# Altium integrated library Interface ICs.IntLib: 53 symbols
Pins are listed as number, name and electrical type; pins without a type are passive.

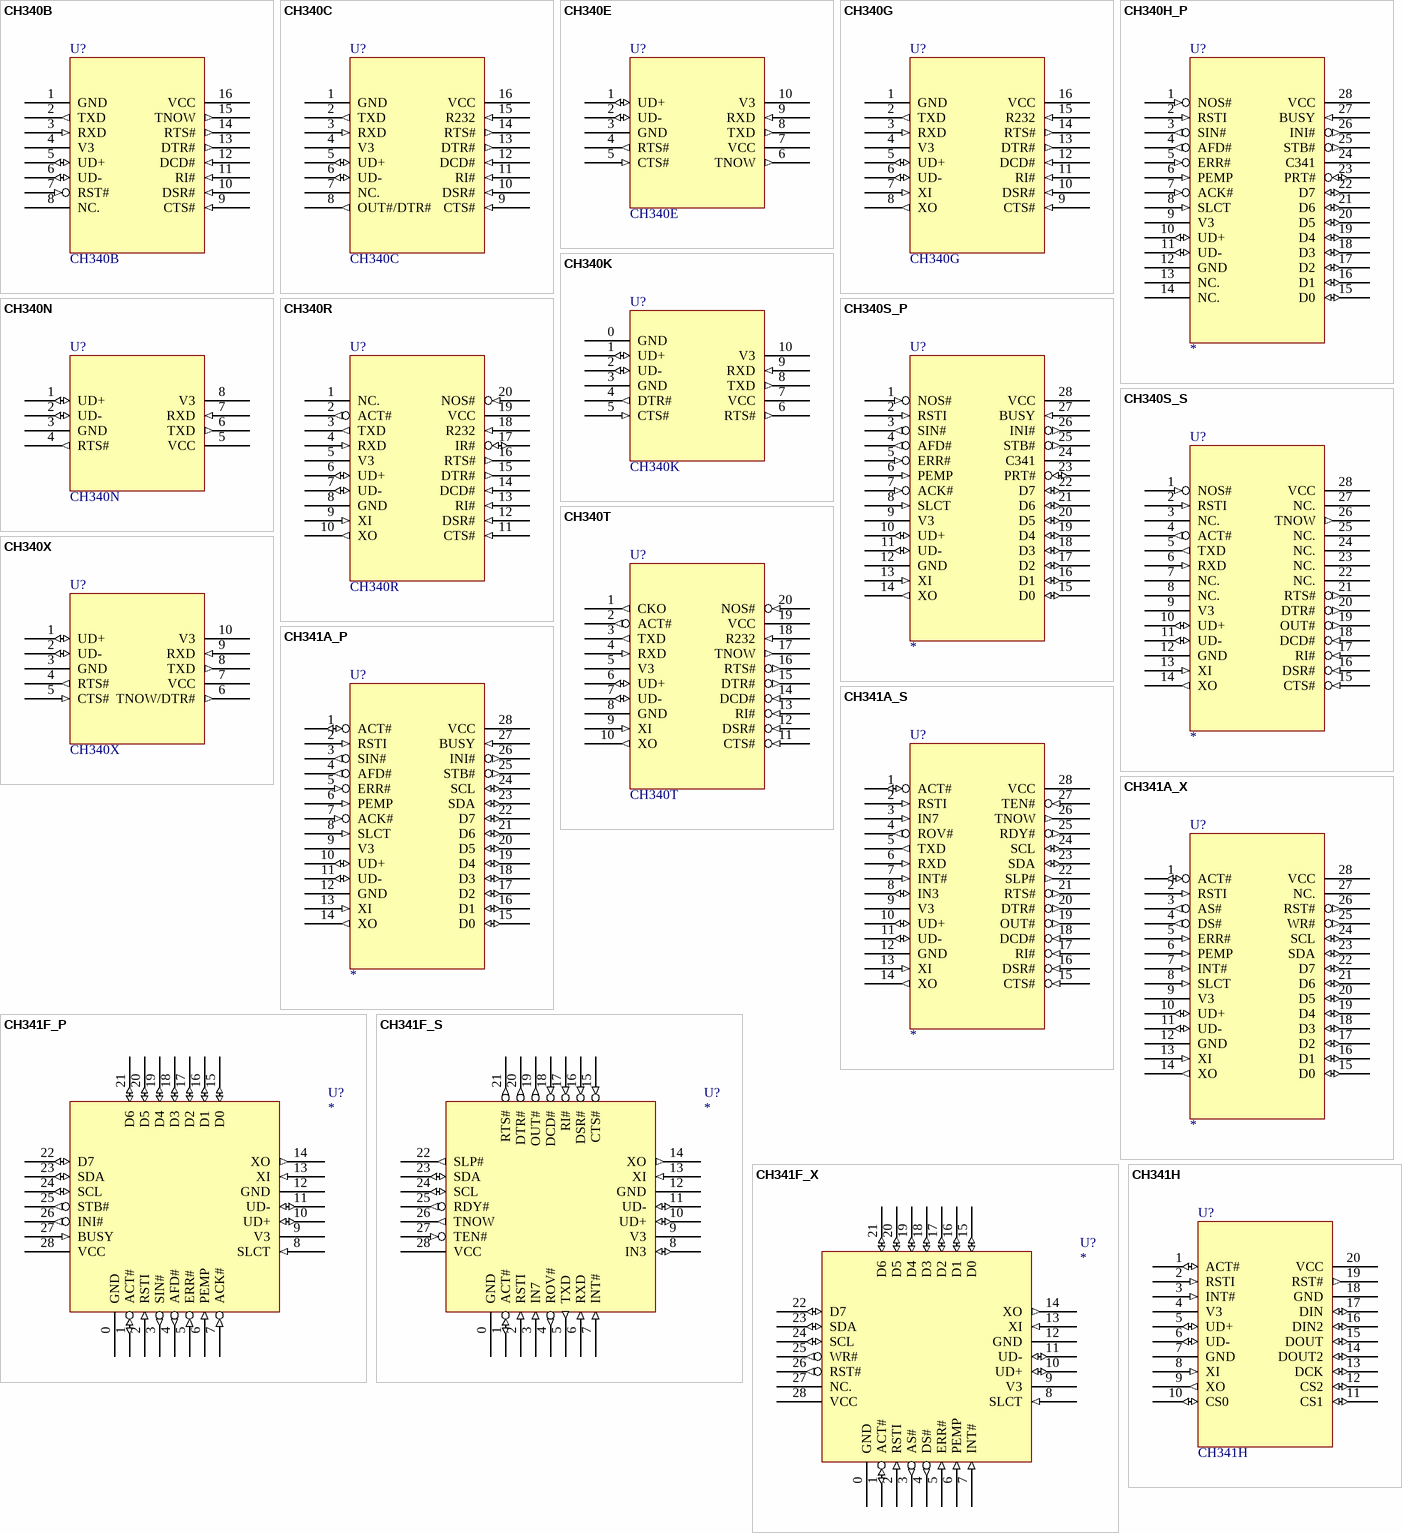
[diagram p0: symbols CH340B to CH341H]

## CH340B
designator U?
USB to TTL Serial / UART, Integrated clock; 制造商: WCH(南京沁恒); 子类别: USB转串口; 封装: SOP-16; 类别: USB转换芯片; USB协议版本: USB 2.0 全速; 工作电压: 3.3V/5V; 最高速率: 2Mbps; 通道数: 1
footprint SOP16
pins: 1 GND (power), 2 TXD (out), 3 RXD (in), 4 V3 (power), 5 UD+ (io), 6 UD- (io), 7 RST# (in), 8 NC., 9 CTS# (in), 10 DSR# (in), 11 RI# (in), 12 DCD# (in), 13 DTR# (out), 14 RTS# (out), 15 TNOW (out), 16 VCC (power)

## CH340C
designator U?
USB to TTL Serial / UART; 制造商: WCH(南京沁恒); 子类别: USB转串口; 封装: SOP-16; 类别: USB转换芯片; USB协议版本: USB 2.0 全速; 工作电压: 3.3V/5V; 最高速率: 2Mbps; 通道数: 1
footprint SOP16
pins: 1 GND (power), 2 TXD (out), 3 RXD (in), 4 V3 (power), 5 UD+ (io), 6 UD- (io), 7 NC., 8 OUT#/DTR# (out), 9 CTS# (in), 10 DSR# (in), 11 RI# (in), 12 DCD# (in), 13 DTR# (out), 14 RTS# (out), 15 R232 (in), 16 VCC (power)

## CH340E
designator U?
USB to TTL Serial / UART; 制造商: WCH(南京沁恒); 子类别: USB转串口; 封装: MSOP-10; 类别: USB转换芯片; USB协议版本: USB 2.0 全速; 工作电压: 3.3V/5V; 最高速率: 2Mbps; 通道数: 1
footprint MSOP10
pins: 1 UD+ (io), 2 UD- (io), 3 GND (power), 4 RTS# (out), 5 CTS# (in), 6 TNOW (out), 7 VCC (power), 8 TXD (out), 9 RXD (in), 10 V3 (power)

## CH340G
designator U?
USB to TTL Serial / UART; 制造商: WCH(南京沁恒); 子类别: USB转串口; 封装: SOP-16; 类别: USB转换芯片; USB协议版本: USB 2.0 全速; 工作电压: 3.3V/5V; 最高速率: 2Mbps; 通道数: 1
footprint SOP16
pins: 1 GND (power), 2 TXD (out), 3 RXD (in), 4 V3 (power), 5 UD+ (io), 6 UD- (io), 7 XI (in), 8 XO (out), 9 CTS# (in), 10 DSR# (in), 11 RI# (in), 12 DCD# (in), 13 DTR# (out), 14 RTS# (out), 15 R232 (in), 16 VCC (power)

## CH340H_P
designator U?
USB to Print Port / Parallel; 制造商: WCH(南京沁恒); 子类别: USB转打印口; 封装: DIP28/SOP28; 类别: USB转换芯片; USB协议版本: USB 2.0 全速; 工作电压: 3.3V/5V; 通道数: 1; 最高速率: -
footprint SOP28
footprint DIP28
pins: 1 NOS# (in), 2 RSTI (in), 3 SIN# (out), 4 AFD# (out), 5 ERR# (in), 6 PEMP (in), 7 ACK# (in), 8 SLCT (in), 9 V3 (power), 10 UD+ (io), 11 UD- (io), 12 GND (power), 13 NC., 14 NC., 15 D0 (io), 16 D1 (io), 17 D2 (io), 18 D3 (io), 19 D4 (io), 20 D5 (io), 21 D6 (io), 22 D7 (io), 23 PRT# (io), 24 C341, 25 STB# (out), 26 INI# (out), 27 BUSY (in), 28 VCC (power)

## CH340K
designator U?
USB to TTL Serial / UART for dual power; 制造商: WCH(南京沁恒); 子类别: USB转串口; 封装: ESSOP-10; 类别: USB转换芯片; USB协议版本: USB 2.0 全速; 工作电压: 5V/3.3V/2.5V/1.8V; 最高速率: 230400bps; 通道数: 1
footprint ESSOP10
pins: 0 GND (power), 1 UD+ (io), 2 UD- (io), 3 GND (power), 4 DTR# (out), 5 CTS# (in), 6 RTS# (out), 7 VCC (power), 8 TXD (out), 9 RXD (in), 10 V3 (power)

## CH340N
designator U?
USB to TTL Serial / UART; 制造商: WCH(南京沁恒); 子类别: USB转串口; 封装: SOP-8; 类别: USB转换芯片; USB协议版本: USB 2.0 全速; 工作电压: 3.3V/5V; 最高速率: 2Mbps; 通道数: 1
footprint SOP8
pins: 1 UD+ (io), 2 UD- (io), 3 GND (power), 4 RTS# (out), 5 VCC (power), 6 TXD (out), 7 RXD (in), 8 V3 (power)

## CH340R
designator U?
USB to IrDA, USB to RS232 Serial; 制造商: WCH(南京沁恒); 子类别: USB转串口; 封装: SSOP-20; 类别: USB转换芯片; USB协议版本: USB 2.0 全速; 工作电压: 3.3V/5V; 最高速率: 2Mbps; 通道数: 1
footprint SSOP20
pins: 1 NC., 2 ACT# (out), 3 TXD (out), 4 RXD (in), 5 V3 (power), 6 UD+ (io), 7 UD- (io), 8 GND (power), 9 XI (in), 10 XO (out), 11 CTS# (in), 12 DSR# (in), 13 RI# (in), 14 DCD# (in), 15 DTR# (out), 16 RTS# (out), 17 IR# (io), 18 R232 (in), 19 VCC (power), 20 NOS# (in)

## CH340S_P
designator U?
USB to Print Port / Parallel; 制造商: WCH(南京沁恒); 子类别: USB转打印口; 封装: DIP28/SOP28; 类别: USB转换芯片; USB协议版本: USB 2.0 全速; 工作电压: 3.3V/5V; 通道数: 1; 最高速率: -
footprint SOP28
footprint DIP28
pins: 1 NOS# (in), 2 RSTI (in), 3 SIN# (out), 4 AFD# (out), 5 ERR# (in), 6 PEMP (in), 7 ACK# (in), 8 SLCT (in), 9 V3 (power), 10 UD+ (io), 11 UD- (io), 12 GND (power), 13 XI (in), 14 XO (out), 15 D0 (io), 16 D1 (io), 17 D2 (io), 18 D3 (io), 19 D4 (io), 20 D5 (io), 21 D6 (io), 22 D7 (io), 23 PRT# (io), 24 C341, 25 STB# (out), 26 INI# (out), 27 BUSY (in), 28 VCC (power)

## CH340S_S
designator U?
USB to TTL Serial / UART, pin compatible with CH341; 制造商: WCH(南京沁恒); 子类别: USB转串口; 封装: DIP28/SOP28; 类别: USB转换芯片; USB协议版本: USB 2.0 全速; 工作电压: 3.3V/5V; 最高速率: 2Mbps; 通道数: 1
footprint SOP28
footprint DIP28
pins: 1 NOS# (in), 2 RSTI (in), 3 NC., 4 ACT# (out), 5 TXD (out), 6 RXD (in), 7 NC., 8 NC., 9 V3 (power), 10 UD+ (io), 11 UD- (io), 12 GND (power), 13 XI (in), 14 XO (out), 15 CTS# (in), 16 DSR# (in), 17 RI# (in), 18 DCD# (in), 19 OUT# (out), 20 DTR# (out), 21 RTS# (out), 22 NC., 23 NC., 24 NC., 25 NC., 26 TNOW (out), 27 NC., 28 VCC (power)

## CH340T
designator U?
USB to TTL Serial / UART,  USB to IrDA; 制造商: WCH(南京沁恒); 子类别: USB转串口; 封装: SSOP-20; 类别: USB转换芯片; USB协议版本: USB 2.0 全速; 工作电压: 3.3V/5V; 最高速率: 2Mbps; 通道数: 1
footprint SSOP20
pins: 1 CKO (out), 2 ACT# (out), 3 TXD (out), 4 RXD (in), 5 V3 (power), 6 UD+ (io), 7 UD- (io), 8 GND (power), 9 XI (in), 10 XO (out), 11 CTS# (in), 12 DSR# (in), 13 RI# (in), 14 DCD# (in), 15 DTR# (out), 16 RTS# (out), 17 TNOW (out), 18 R232 (in), 19 VCC (power), 20 NOS# (in)

## CH340X
designator U?
USB to TTL Serial / UART; 制造商: WCH(南京沁恒); 子类别: USB转串口; 封装: MSOP-10; 类别: USB转换芯片; USB协议版本: USB 2.0 全速; 工作电压: 3.3V/5V; 最高速率: 2Mbps; 通道数: 1
footprint MSOP10
pins: 1 UD+ (io), 2 UD- (io), 3 GND (power), 4 RTS# (out), 5 CTS# (in), 6 TNOW/DTR# (out), 7 VCC (power), 8 TXD (out), 9 RXD (in), 10 V3 (power)

## CH341A_P
designator U?
USB to Print Port / Parallel; 制造商: WCH(南京沁恒); 子类别: USB转打印口; 封装: SOP-28; 类别: USB转换芯片; USB协议版本: USB 2.0 全速; 工作电压: 3.3V/5V; 通道数: 1; 最高速率: -
footprint SOP28
footprint TSSOP28
footprint DIP28
pins: 1 ACT# (io), 2 RSTI (in), 3 SIN# (out), 4 AFD# (out), 5 ERR# (in), 6 PEMP (in), 7 ACK# (in), 8 SLCT (in), 9 V3 (power), 10 UD+ (io), 11 UD- (io), 12 GND (power), 13 XI (in), 14 XO (out), 15 D0 (io), 16 D1 (io), 17 D2 (io), 18 D3 (io), 19 D4 (io), 20 D5 (io), 21 D6 (io), 22 D7 (io), 23 SDA (io), 24 SCL (io), 25 STB# (out), 26 INI# (out), 27 BUSY (in), 28 VCC (power)

## CH341A_S
designator U?
USB to TTL Serial / UART / I2C/IIC; 制造商: WCH(南京沁恒); 子类别: USB转串口; 封装: SOP-28; 类别: USB转换芯片; USB协议版本: USB 2.0 全速; 工作电压: 3.3V/5V; 最高速率: 2Mbps; 通道数: 1
footprint SOP28
footprint TSSOP28
footprint DIP28
pins: 1 ACT# (io), 2 RSTI (in), 3 IN7 (in), 4 ROV# (out), 5 TXD (out), 6 RXD (in), 7 INT# (in), 8 IN3 (io), 9 V3 (power), 10 UD+ (io), 11 UD- (io), 12 GND (power), 13 XI (in), 14 XO (out), 15 CTS# (in), 16 DSR# (in), 17 RI# (in), 18 DCD# (in), 19 OUT# (out), 20 DTR# (out), 21 RTS# (out), 22 SLP# (out), 23 SDA (io), 24 SCL (io), 25 RDY# (out), 26 TNOW (out), 27 TEN# (in), 28 VCC (power)

## CH341A_X
designator U?
USB to EPP Parallel / SPI / I2C/IIC; 制造商: WCH(南京沁恒); 子类别: USB转并口; 封装: SOP-28; 类别: USB转换芯片; USB协议版本: USB 2.0 全速; 工作电压: 3.3V/5V; 通道数: 1; 最高速率: -
footprint SOP28
footprint TSSOP28
footprint DIP28
pins: 1 ACT# (io), 2 RSTI (in), 3 AS# (out), 4 DS# (out), 5 ERR# (in), 6 PEMP (in), 7 INT# (in), 8 SLCT (in), 9 V3 (power), 10 UD+ (io), 11 UD- (io), 12 GND (power), 13 XI (in), 14 XO (out), 15 D0 (io), 16 D1 (io), 17 D2 (io), 18 D3 (io), 19 D4 (io), 20 D5 (io), 21 D6 (io), 22 D7 (io), 23 SDA (io), 24 SCL (io), 25 WR# (out), 26 RST# (out), 27 NC., 28 VCC (power)

## CH341F_P
designator U?
USB to Print Port / Parallel; 制造商: WCH(南京沁恒); 子类别: USB转打印口; 封装: QFN28_4X4; 类别: USB转换芯片; USB协议版本: USB 2.0 全速; 工作电压: 3.3V/5V; 通道数: 1; 最高速率: -
footprint QFN28_4X4
footprint DIP28
pins: 0 GND (power), 1 ACT# (io), 2 RSTI (in), 3 SIN# (out), 4 AFD# (out), 5 ERR# (in), 6 PEMP (in), 7 ACK# (in), 8 SLCT (in), 9 V3 (power), 10 UD+ (io), 11 UD- (io), 12 GND (power), 13 XI (in), 14 XO (out), 15 D0 (io), 16 D1 (io), 17 D2 (io), 18 D3 (io), 19 D4 (io), 20 D5 (io), 21 D6 (io), 22 D7 (io), 23 SDA (io), 24 SCL (io), 25 STB# (out), 26 INI# (out), 27 BUSY (in), 28 VCC (power)

## CH341F_S
designator U?
USB to TTL Serial / UART / I2C/IIC; 制造商: WCH(南京沁恒); 子类别: USB转串口; 封装: QFN28_4X4; 类别: USB转换芯片; USB协议版本: USB 2.0 全速; 工作电压: 3.3V/5V; 最高速率: 2Mbps; 通道数: 1
footprint QFN28_4X4
footprint DIP28
pins: 0 GND (power), 1 ACT# (io), 2 RSTI (in), 3 IN7 (in), 4 ROV# (out), 5 TXD (out), 6 RXD (in), 7 INT# (in), 8 IN3 (io), 9 V3 (power), 10 UD+ (io), 11 UD- (io), 12 GND (power), 13 XI (in), 14 XO (out), 15 CTS# (in), 16 DSR# (in), 17 RI# (in), 18 DCD# (in), 19 OUT# (out), 20 DTR# (out), 21 RTS# (out), 22 SLP# (out), 23 SDA (io), 24 SCL (io), 25 RDY# (out), 26 TNOW (out), 27 TEN# (in), 28 VCC (power)

## CH341F_X
designator U?
USB to EPP Parallel / SPI / I2C/IIC; 制造商: WCH(南京沁恒); 子类别: USB转并口; 封装: QFN28_4X4; 类别: USB转换芯片; USB协议版本: USB 2.0 全速; 工作电压: 3.3V/5V; 通道数: 1; 最高速率: -
footprint QFN28_4X4
footprint DIP28
pins: 0 GND (power), 1 ACT# (io), 2 RSTI (in), 3 AS# (out), 4 DS# (out), 5 ERR# (in), 6 PEMP (in), 7 INT# (in), 8 SLCT (in), 9 V3 (power), 10 UD+ (io), 11 UD- (io), 12 GND (power), 13 XI (in), 14 XO (out), 15 D0 (io), 16 D1 (io), 17 D2 (io), 18 D3 (io), 19 D4 (io), 20 D5 (io), 21 D6 (io), 22 D7 (io), 23 SDA (io), 24 SCL (io), 25 WR# (out), 26 RST# (out), 27 NC., 28 VCC (power)

## CH341H
designator U?
USB to SPI; 制造商: WCH(南京沁恒); 子类别: USB转串口; 封装: SSOP-20; 类别: USB转换芯片; USB协议版本: USB 2.0 全速; 工作电压: 3.3V/5V; 最高速率: 2Mbps; 通道数: 1
footprint SSOP20
pins: 1 ACT# (io), 2 RSTI (in), 3 INT# (in), 4 V3 (power), 5 UD+ (io), 6 UD- (io), 7 GND (power), 8 XI (in), 9 XO (out), 10 CS0 (io), 11 CS1 (io), 12 CS2 (io), 13 DCK (io), 14 DOUT2 (io), 15 DOUT (io), 16 DIN2 (io), 17 DIN (io), 18 GND (power), 19 RST# (out), 20 VCC (power)

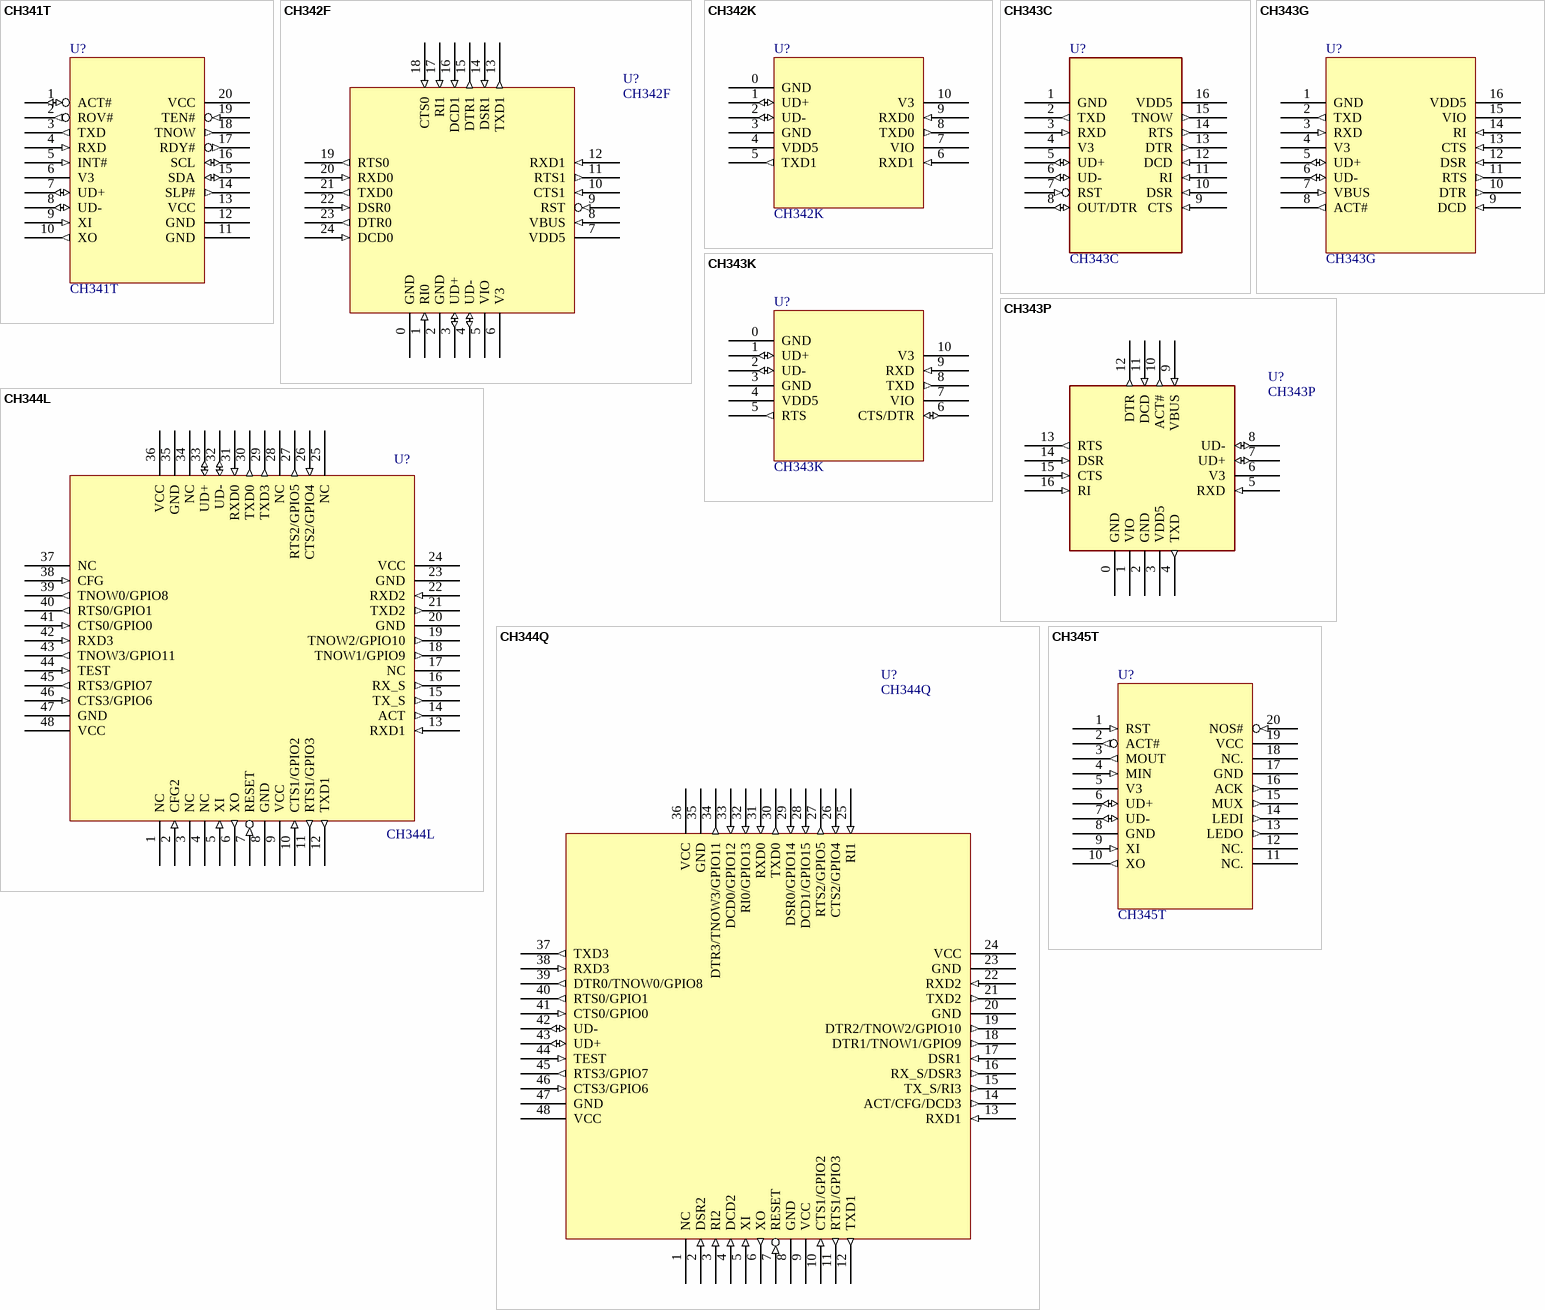
[diagram p1: symbols CH341T to CH345T]

## CH341T
designator U?
USB to TTL Serial / UART / I2C/IIC; 制造商: WCH(南京沁恒); 子类别: USB转串口; 封装: SSOP-20; 类别: USB转换芯片; USB协议版本: USB 2.0 全速; 工作电压: 3.3V/5V; 最高速率: 2Mbps; 通道数: 1
footprint SSOP20
pins: 1 ACT# (io), 2 ROV# (out), 3 TXD (out), 4 RXD (in), 5 INT# (in), 6 V3 (power), 7 UD+ (io), 8 UD- (io), 9 XI (in), 10 XO (out), 11 GND (power), 12 GND (power), 13 VCC (power), 14 SLP# (out), 15 SDA (io), 16 SCL (io), 17 RDY# (out), 18 TNOW (out), 19 TEN# (in), 20 VCC (power)

## CH342F
designator U?
USB to dual enhanced TTL Serial / 2*UART; 制造商: WCH(南京沁恒); 子类别: USB转串口; 封装: QFN24; 类别: USB转换芯片; USB协议版本: USB 2.0 全速; 工作电压: 5V/3.3V/2.5V/1.8V; 最高速率: 3Mbps; 通道数: 2
footprint QFN24_4X4
pins: 0 GND (power), 1 RI0 (in), 2 GND (power), 3 UD+ (io), 4 UD- (io), 5 VIO (power), 6 V3 (power), 7 VDD5 (power), 8 VBUS (in), 9 RST (in), 10 CTS1 (in), 11 RTS1 (out), 12 RXD1 (in), 13 TXD1 (out), 14 DSR1 (in), 15 DTR1 (out), 16 DCD1 (in), 17 RI1 (in), 18 CTS0 (in), 19 RTS0 (out), 20 RXD0 (in), 21 TXD0 (out), 22 DSR0 (in), 23 DTR0 (out), 24 DCD0 (in)

## CH342K
designator U?
USB to dual enhanced TTL Serial / 2*UART; 制造商: WCH(南京沁恒); 子类别: USB转串口; 封装: ESSOP10; 类别: USB转换芯片; USB协议版本: USB 2.0 全速; 工作电压: 5V/3.3V/2.5V/1.8V; 最高速率: 3Mbps; 通道数: 2
footprint ESSOP10
pins: 0 GND (power), 1 UD+ (io), 2 UD- (io), 3 GND (power), 4 VDD5 (power), 5 TXD1 (out), 6 RXD1 (in), 7 VIO (power), 8 TXD0 (out), 9 RXD0 (in), 10 V3 (power)

## CH343C
designator U?
USB to high speed enhanced TTL Serial / UART; 制造商: WCH(南京沁恒); 子类别: USB转串口; 封装: SOP16; 类别: USB转换芯片; USB协议版本: USB 2.0 全速; 工作电压: 5V/3.3V/2.5V/1.8V; 最高速率: 6Mbps; 通道数: 1
footprint SOP16
pins: 1 GND (power), 2 TXD (out), 3 RXD (in), 4 V3 (power), 5 UD+ (io), 6 UD- (io), 7 RST (in), 8 OUT/DTR (io), 9 CTS (in), 10 DSR (in), 11 RI (in), 12 DCD (in), 13 DTR (out), 14 RTS (out), 15 TNOW (out), 16 VDD5 (power)

## CH343G
designator U?
USB to high speed enhanced TTL Serial / UART; 制造商: WCH(南京沁恒); 子类别: USB转串口; 封装: SOP16; 类别: USB转换芯片; USB协议版本: USB 2.0 全速; 工作电压: 5V/3.3V/2.5V/1.8V; 最高速率: 6Mbps; 通道数: 1
footprint SOP16
footprint DIP16
pins: 1 GND (power), 2 TXD (out), 3 RXD (in), 4 V3 (power), 5 UD+ (io), 6 UD- (io), 7 VBUS (in), 8 ACT# (out), 9 DCD (in), 10 DTR (out), 11 RTS (out), 12 DSR (in), 13 CTS (in), 14 RI (in), 15 VIO (power), 16 VDD5 (power)

## CH343K
designator U?
USB to high speed enhanced TTL Serial / UART; 制造商: WCH(南京沁恒); 子类别: USB转串口; 封装: ESSOP10; 类别: USB转换芯片; USB协议版本: USB 2.0 全速; 工作电压: 5V/3.3V/2.5V/1.8V; 最高速率: 6Mbps; 通道数: 1
footprint ESSOP10
pins: 0 GND (power), 1 UD+ (io), 2 UD- (io), 3 GND (power), 4 VDD5 (power), 5 RTS (out), 6 CTS/DTR (io), 7 VIO (power), 8 TXD (out), 9 RXD (in), 10 V3 (power)

## CH343P
designator U?
USB to high speed enhanced TTL Serial / UART; 制造商: WCH(南京沁恒); 子类别: USB转串口; 封装: QFN16; 类别: USB转换芯片; USB协议版本: USB 2.0 全速; 工作电压: 5V/3.3V/2.5V/1.8V; 最高速率: 6Mbps; 通道数: 1
footprint QFN16_3X3 (Footprint not found)
pins: 0 GND (power), 1 VIO (power), 2 GND (power), 3 VDD5 (power), 4 TXD (out), 5 RXD (in), 6 V3 (power), 7 UD+ (io), 8 UD- (io), 9 VBUS (in), 10 ACT# (out), 11 DCD (in), 12 DTR (out), 13 RTS (out), 14 DSR (in), 15 CTS (in), 16 RI (in)

## CH344L
designator U?
USB to quad serial port / 4*UART; 制造商: WCH(南京沁恒); 子类别: USB转串口; 封装: LQFP48; 类别: USB转换芯片; USB协议版本: USB 2.0 全速; 工作电压: 3.3V; 最高速率: 2Mbps; 通道数: 4
footprint LQFP48 (Footprint not found)
pins: 1 NC, 2 CFG2 (in), 3 NC, 4 NC, 5 XI (in), 6 XO (out), 7 RESET (in), 8 GND (power), 9 VCC (power), 10 CTS1/GPIO2 (in), 11 RTS1/GPIO3 (out), 12 TXD1 (out), 13 RXD1 (in), 14 ACT (out), 15 TX_S (out), 16 RX_S (out), 17 NC, 18 TNOW1/GPIO9 (out), 19 TNOW2/GPIO10 (out), 20 GND (power), 21 TXD2 (out), 22 RXD2 (in), 23 GND (power), 24 VCC (power), 25 NC, 26 CTS2/GPIO4 (in), 27 RTS2/GPIO5 (out), 28 NC, 29 TXD3 (out), 30 TXD0 (out), 31 RXD0 (in), 32 UD- (io), 33 UD+ (io), 34 NC, 35 GND (power), 36 VCC (power), 37 NC, 38 CFG (in), 39 TNOW0/GPIO8 (out), 40 RTS0/GPIO1 (out), 41 CTS0/GPIO0 (in), 42 RXD3 (in), 43 TNOW3/GPIO11 (out), 44 TEST (in), 45 RTS3/GPIO7 (out), 46 CTS3/GPIO6 (in), 47 GND (power), 48 VCC (power)

## CH344Q
designator U?
High Speed USB to quad serial port / 4*UART; 制造商: WCH(南京沁恒); 子类别: USB转串口; 封装: LQFP48; 类别: USB转换芯片; USB协议版本: USB 2.0 高速; 工作电压: 3.3V; 最高速率: 6Mbps; 通道数: 4
footprint LQFP48 (Footprint not found)
pins: 1 NC, 2 DSR2 (in), 3 RI2 (in), 4 DCD2 (in), 5 XI (in), 6 XO (out), 7 RESET (in), 8 GND (power), 9 VCC (power), 10 CTS1/GPIO2 (in), 11 RTS1/GPIO3 (out), 12 TXD1 (out), 13 RXD1 (in), 14 ACT/CFG/DCD3 (out), 15 TX_S/RI3 (out), 16 RX_S/DSR3 (out), 17 DSR1 (in), 18 DTR1/TNOW1/GPIO9 (out), 19 DTR2/TNOW2/GPIO10 (out), 20 GND (power), 21 TXD2 (out), 22 RXD2 (in), 23 GND (power), 24 VCC (power), 25 RI1 (in), 26 CTS2/GPIO4 (in), 27 RTS2/GPIO5 (out), 28 DCD1/GPIO15 (in), 29 DSR0/GPIO14 (in), 30 TXD0 (out), 31 RXD0 (in), 32 RI0/GPIO13 (in), 33 DCD0/GPIO12 (in), 34 DTR3/TNOW3/GPIO11 (out), 35 GND (power), 36 VCC (power), 37 TXD3 (out), 38 RXD3 (in), 39 DTR0/TNOW0/GPIO8 (out), 40 RTS0/GPIO1 (out), 41 CTS0/GPIO0 (in), 42 UD- (io), 43 UD+ (io), 44 TEST (in), 45 RTS3/GPIO7 (out), 46 CTS3/GPIO6 (in), 47 GND (power), 48 VCC (power)

## CH345T
designator U?
USB to MIDI; 制造商: WCH(南京沁恒); 子类别: USB转MIDI; 封装: SSOP-20; 类别: USB转换芯片; USB协议版本: USB 2.0 全速; 工作电压: 3.3V/5V; 通道数: 3; 最高速率: -
footprint SSOP20
pins: 1 RST (in), 2 ACT# (out), 3 MOUT (out), 4 MIN (in), 5 V3 (power), 6 UD+ (io), 7 UD- (io), 8 GND (power), 9 XI (in), 10 XO (out), 11 NC., 12 NC., 13 LEDO (out), 14 LEDI (out), 15 MUX (out), 16 ACK (out), 17 GND (power), 18 NC., 19 VCC (power), 20 NOS# (in)

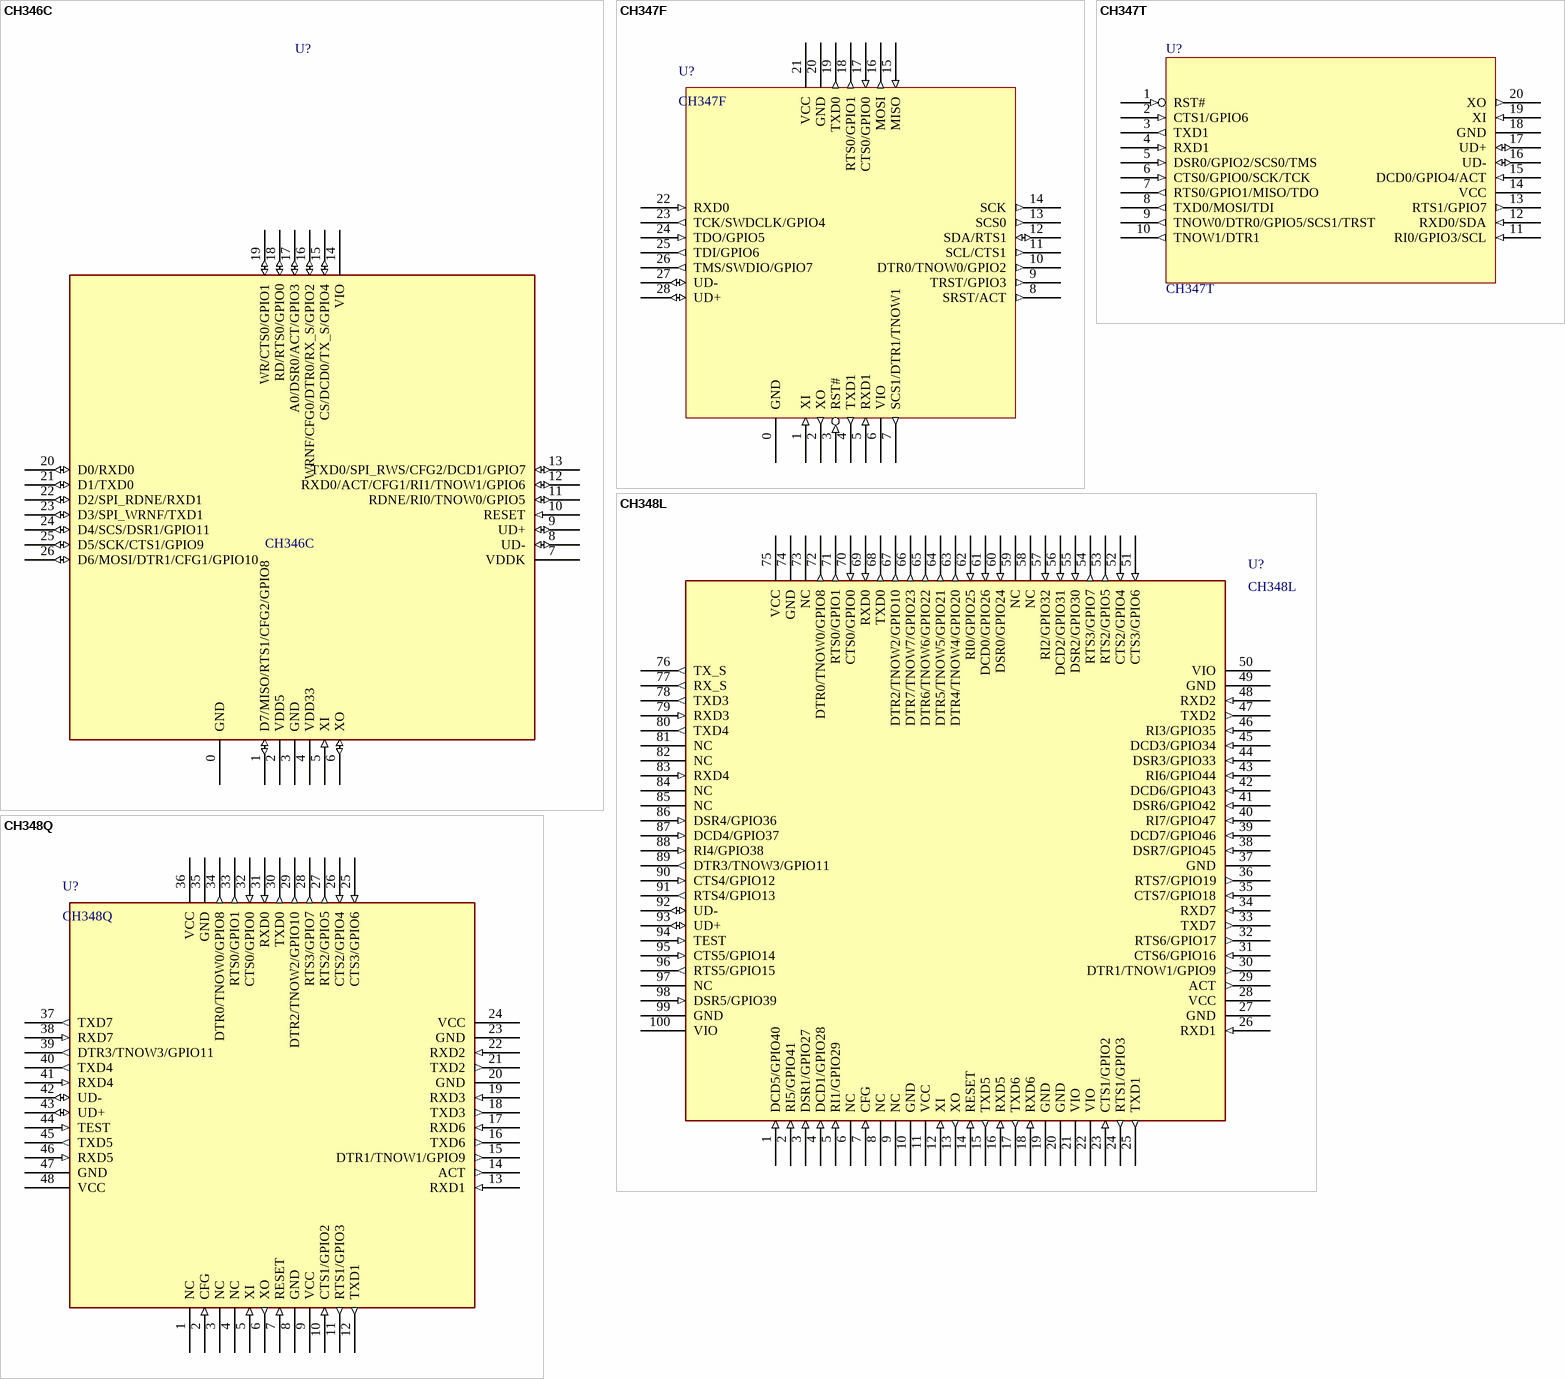
[diagram p2: symbols CH346C to CH348Q]

## CH346C
designator U?
high-speed USB to UART & SPI & Parallel; 制造商: WCH(南京沁恒); 子类别: USB转串口; 封装: QFN26C3; 类别: USB转换芯片; USB协议版本: USB 2.0 高速; 工作电压: 3.3V/2.5V/1.8V; 最高速率: 15Mbps; 通道数: 2
footprint QFN26C_3X3
pins: 0 GND (power), 1 D7/MISO/RTS1/CFG2/GPIO8 (io), 2 VDD5 (power), 3 GND (power), 4 VDD33 (power), 5 XI (in), 6 XO (io), 7 VDDK (power), 8 UD- (io), 9 UD+ (io), 10 RESET (in), 11 RDNE/RI0/TNOW0/GPIO5 (io), 12 RXD0/ACT/CFG1/RI1/TNOW1/GPIO6 (io), 13 TXD0/SPI_RWS/CFG2/DCD1/GPIO7 (io), 14 VIO (power), 15 CS/DCD0/TX_S/GPIO4 (io), 16 WRNF/CFG0/DTR0/RX_S/GPIO2 (io), 17 A0/DSR0/ACT/GPIO3 (io), 18 RD/RTS0/GPIO0 (io), 19 WR/CTS0/GPIO1 (io), 20 D0/RXD0 (io), 21 D1/TXD0 (io), 22 D2/SPI_RDNE/RXD1 (io), 23 D3/SPI_WRNF/TXD1 (io), 24 D4/SCS/DSR1/GPIO11 (io), 25 D5/SCK/CTS1/GPIO9 (io), 26 D6/MOSI/DTR1/CFG1/GPIO10 (io)

## CH347F
designator U?
High Speed USB to UART + SPI + IIC + JTAG; 制造商: WCH(南京沁恒); 子类别: USB转串口; 封装: QFN28; 类别: USB转换芯片; USB协议版本: USB 2.0 高速; 工作电压: 3.3V/2.5V/1.8V; 最高速率: 9Mbps; 通道数: 2
footprint QFN28_4X4
pins: 0 GND (power), 1 XI (in), 2 XO (out), 3 RST# (in), 4 TXD1 (out), 5 RXD1 (in), 6 VIO (power), 7 SCS1/DTR1/TNOW1 (out), 8 SRST/ACT (out), 9 TRST/GPIO3 (out), 10 DTR0/TNOW0/GPIO2 (out), 11 SCL/CTS1 (out), 12 SDA/RTS1 (io), 13 SCS0 (out), 14 SCK (out), 15 MISO (in), 16 MOSI (out), 17 CTS0/GPIO0 (in), 18 RTS0/GPIO1 (out), 19 TXD0 (out), 20 GND (power), 21 VCC (power), 22 RXD0 (in), 23 TCK/SWDCLK/GPIO4 (out), 24 TDO/GPIO5 (in), 25 TDI/GPIO6 (out), 26 TMS/SWDIO/GPIO7 (out), 27 UD- (io), 28 UD+ (io)

## CH347T
designator U?
High Speed USB to UART / SPI / IIC / JTAG; 制造商: WCH(南京沁恒); 子类别: USB转串口; 封装: TSSOP20; 类别: USB转换芯片; USB协议版本: USB 2.0 高速; 工作电压: 3.3V; 最高速率: 9Mbps; 通道数: 1/2
footprint TSSOP20
pins: 1 RST# (in), 2 CTS1/GPIO6 (in), 3 TXD1 (out), 4 RXD1 (in), 5 DSR0/GPIO2/SCS0/TMS (in), 6 CTS0/GPIO0/SCK/TCK (in), 7 RTS0/GPIO1/MISO/TDO (out), 8 TXD0/MOSI/TDI (out), 9 TNOW0/DTR0/GPIO5/SCS1/TRST (out), 10 TNOW1/DTR1 (out), 11 RI0/GPIO3/SCL (in), 12 RXD0/SDA (in), 13 RTS1/GPIO7 (out), 14 VCC (power), 15 DCD0/GPIO4/ACT (in), 16 UD- (io), 17 UD+ (io), 18 GND (power), 19 XI (in), 20 XO (out)

## CH348L
designator U?
High Speed USB to eight enhanced TTL Serial / 8 *UART; 制造商: WCH(南京沁恒); 子类别: USB转串口; 封装: LQFP100; 类别: USB转换芯片; USB协议版本: USB 2.0 高速; 工作电压: 3.3V/2.5V/1.8V; 最高速率: 6Mbps; 通道数: 8
footprint LQFP100
pins: 1 DCD5/GPIO40 (in), 2 RI5/GPIO41 (in), 3 DSR1/GPIO27 (in), 4 DCD1/GPIO28 (in), 5 RI1/GPIO29 (in), 6 NC, 7 CFG (in), 8 NC, 9 NC, 10 GND (power), 11 VCC (power), 12 XI (in), 13 XO (out), 14 RESET (in), 15 TXD5 (out), 16 RXD5 (in), 17 TXD6 (out), 18 RXD6 (in), 19 GND (power), 20 GND (power), 21 VIO (power), 22 VIO (power), 23 CTS1/GPIO2 (in), 24 RTS1/GPIO3 (out), 25 TXD1 (out), 26 RXD1 (in), 27 GND (power), 28 VCC (power), 29 ACT (out), 30 DTR1/TNOW1/GPIO9 (out), 31 CTS6/GPIO16 (in), 32 RTS6/GPIO17 (out), 33 TXD7 (out), 34 RXD7 (in), 35 CTS7/GPIO18 (in), 36 RTS7/GPIO19 (out), 37 GND (power), 38 DSR7/GPIO45 (in), 39 DCD7/GPIO46 (in), 40 RI7/GPIO47 (in), 41 DSR6/GPIO42 (in), 42 DCD6/GPIO43 (in), 43 RI6/GPIO44 (in), 44 DSR3/GPIO33 (in), 45 DCD3/GPIO34 (in), 46 RI3/GPIO35 (in), 47 TXD2 (out), 48 RXD2 (in), 49 GND (power), 50 VIO (power), 51 CTS3/GPIO6 (in), 52 CTS2/GPIO4 (in), 53 RTS2/GPIO5 (out), 54 RTS3/GPIO7 (out), 55 DSR2/GPIO30 (in), 56 DCD2/GPIO31 (in), 57 RI2/GPIO32 (in), 58 NC, 59 NC, 60 DSR0/GPIO24 (in), 61 DCD0/GPIO26 (in), 62 RI0/GPIO25 (in), 63 DTR4/TNOW4/GPIO20 (out), 64 DTR5/TNOW5/GPIO21 (out), 65 DTR6/TNOW6/GPIO22 (out), 66 DTR7/TNOW7/GPIO23 (out), 67 DTR2/TNOW2/GPIO10 (out), 68 TXD0 (out), 69 RXD0 (in), 70 CTS0/GPIO0 (in), 71 RTS0/GPIO1 (out), 72 DTR0/TNOW0/GPIO8 (out), 73 NC, 74 GND (power), 75 VCC (power), 76 TX_S (out), 77 RX_S (out), 78 TXD3 (out), 79 RXD3 (in), 80 TXD4 (out), 81 NC, 82 NC, 83 RXD4 (in), 84 NC, 85 NC, 86 DSR4/GPIO36 (in), 87 DCD4/GPIO37 (in), 88 RI4/GPIO38 (in), 89 DTR3/TNOW3/GPIO11 (out), 90 CTS4/GPIO12 (in), 91 RTS4/GPIO13 (out), 92 UD- (io), 93 UD+ (io), 94 TEST (in), 95 CTS5/GPIO14 (in), 96 RTS5/GPIO15 (out), 97 NC, 98 DSR5/GPIO39 (in), 99 GND (power), 100 VIO (power)

## CH348Q
designator U?
High Speed USB to eight enhanced TTL Serial / 8 *UART; 制造商: WCH(南京沁恒); 子类别: USB转串口; 封装: LQFP48; 类别: USB转换芯片; USB协议版本: USB 2.0 高速; 工作电压: 3.3V; 最高速率: 6Mbps; 通道数: 8
footprint LQFP48
pins: 1 NC, 2 CFG (in), 3 NC, 4 NC, 5 XI (in), 6 XO (out), 7 RESET (in), 8 GND (power), 9 VCC (power), 10 CTS1/GPIO2 (in), 11 RTS1/GPIO3 (out), 12 TXD1 (out), 13 RXD1 (in), 14 ACT (out), 15 DTR1/TNOW1/GPIO9 (out), 16 TXD6 (out), 17 RXD6 (in), 18 TXD3 (out), 19 RXD3 (in), 20 GND (power), 21 TXD2 (out), 22 RXD2 (in), 23 GND (power), 24 VCC (power), 25 CTS3/GPIO6 (in), 26 CTS2/GPIO4 (in), 27 RTS2/GPIO5 (out), 28 RTS3/GPIO7 (out), 29 DTR2/TNOW2/GPIO10 (out), 30 TXD0 (out), 31 RXD0 (in), 32 CTS0/GPIO0 (in), 33 RTS0/GPIO1 (out), 34 DTR0/TNOW0/GPIO8 (out), 35 GND (power), 36 VCC (power), 37 TXD7 (out), 38 RXD7 (in), 39 DTR3/TNOW3/GPIO11 (out), 40 TXD4 (out), 41 RXD4 (in), 42 UD- (io), 43 UD+ (io), 44 TEST (in), 45 TXD5 (out), 46 RXD5 (in), 47 GND (power), 48 VCC (power)

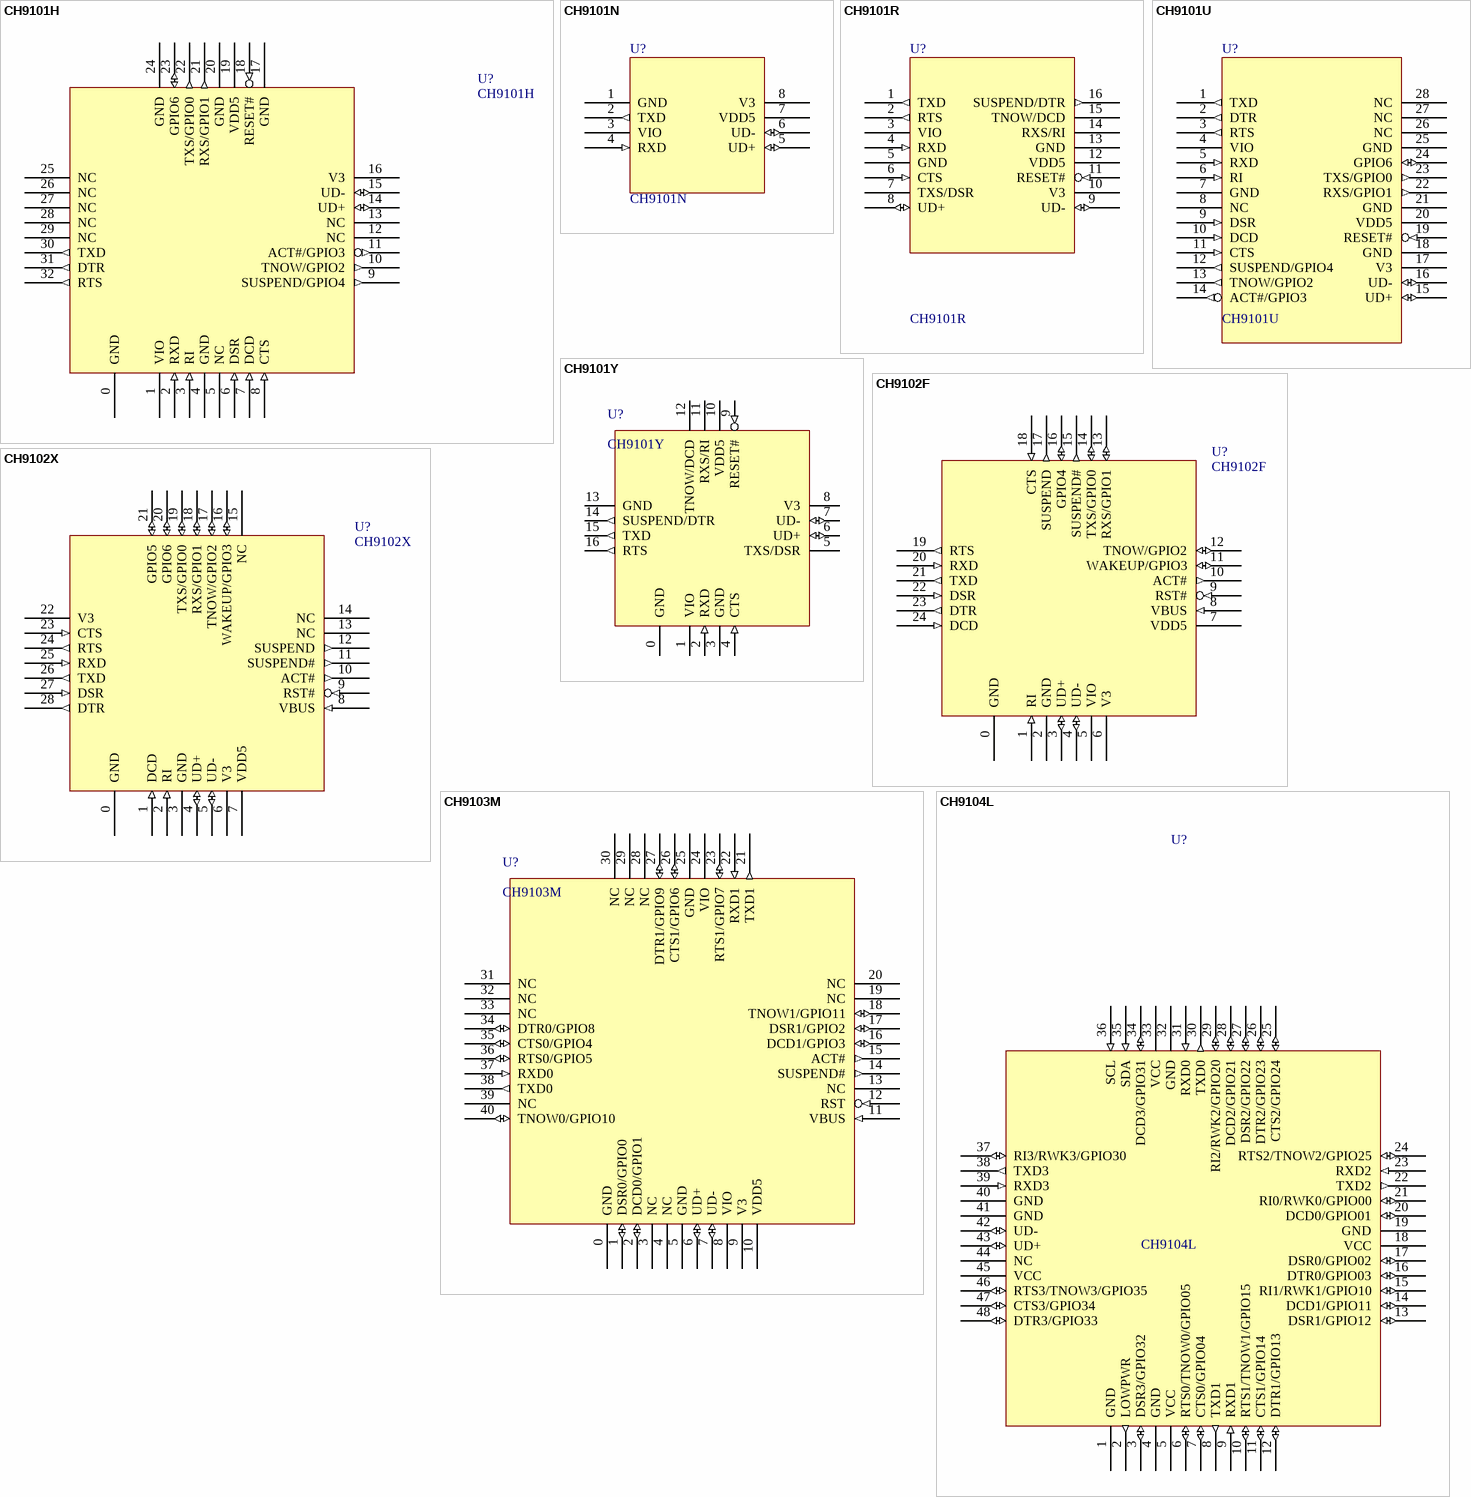
[diagram p3: symbols CH9101H to CH9104L]

## CH9101H
designator U?
USB to high speed TTL Serial / UART; USB协议版本: USB 2.0 全速; 制造商: WCH(南京沁恒); 子类别: USB转串口; 封装: QFN32X5; 工作电压: 5V/3.3V/2.5V/1.8V; 最高速率: 3Mbps; 类别: USB转换芯片; 通道数: 1
footprint QFN32_5X5
pins: 0 GND (power), 1 VIO (power), 2 RXD (in), 3 RI (in), 4 GND (power), 5 NC, 6 DSR (in), 7 DCD (in), 8 CTS (in), 9 SUSPEND/GPIO4 (out), 10 TNOW/GPIO2 (out), 11 ACT#/GPIO3 (out), 12 NC, 13 NC, 14 UD+ (io), 15 UD- (io), 16 V3 (power), 17 GND (power), 18 RESET# (in), 19 VDD5 (power), 20 GND (power), 21 RXS/GPIO1 (out), 22 TXS/GPIO0 (out), 23 GPIO6 (io), 24 GND (power), 25 NC, 26 NC, 27 NC, 28 NC, 29 NC, 30 TXD (out), 31 DTR (out), 32 RTS (out)

## CH9101N
designator U?
USB to high speed TTL Serial / UART; USB协议版本: USB 2.0 全速; 制造商: WCH(南京沁恒); 子类别: USB转串口; 封装: SOP8; 工作电压: 5V/3.3V/2.5V/1.8V; 最高速率: 3Mbps; 类别: USB转换芯片; 通道数: 1
footprint SOP8
pins: 1 GND (power), 2 TXD (out), 3 VIO (power), 4 RXD (in), 5 UD+ (io), 6 UD- (io), 7 VDD5 (power), 8 V3 (power)

## CH9101R
designator U?
USB to high speed TTL Serial / UART; USB协议版本: USB 2.0 全速; 制造商: WCH(南京沁恒); 子类别: USB转串口; 封装: QSOP16; 工作电压: 5V/3.3V/2.5V/1.8V; 最高速率: 3Mbps; 类别: USB转换芯片; 通道数: 1
footprint QSOP16
pins: 1 TXD (out), 2 RTS (out), 3 VIO (power), 4 RXD (in), 5 GND (power), 6 CTS (in), 7 TXS/DSR, 8 UD+ (io), 9 UD- (io), 10 V3 (power), 11 RESET# (in), 12 VDD5 (power), 13 GND (power), 14 RXS/RI, 15 TNOW/DCD, 16 SUSPEND/DTR (out)

## CH9101U
designator U?
USB to high speed TTL Serial / UART; USB协议版本: USB 2.0 全速; 制造商: WCH(南京沁恒); 子类别: USB转串口; 封装: SSOP28; 工作电压: 5V/3.3V/2.5V/1.8V; 最高速率: 3Mbps; 类别: USB转换芯片; 通道数: 1
footprint SSOP28 (Footprint not found)
pins: 1 TXD (out), 2 DTR (out), 3 RTS (out), 4 VIO (power), 5 RXD (in), 6 RI (in), 7 GND (power), 8 NC, 9 DSR (in), 10 DCD (in), 11 CTS (in), 12 SUSPEND/GPIO4 (out), 13 TNOW/GPIO2 (out), 14 ACT#/GPIO3 (out), 15 UD+ (io), 16 UD- (io), 17 V3 (power), 18 GND (power), 19 RESET# (in), 20 VDD5 (power), 21 GND (power), 22 RXS/GPIO1 (out), 23 TXS/GPIO0 (out), 24 GPIO6 (io), 25 GND (power), 26 NC, 27 NC, 28 NC

## CH9101Y
designator U?
USB to high speed TTL Serial / UART; USB协议版本: USB 2.0 全速; 制造商: WCH(南京沁恒); 子类别: USB转串口; 封装: QFN16X4; 工作电压: 5V/3.3V/2.5V/1.8V; 最高速率: 3Mbps; 类别: USB转换芯片; 通道数: 1
footprint QFN16_4X4
pins: 0 GND (power), 1 VIO (power), 2 RXD (in), 3 GND (power), 4 CTS (in), 5 TXS/DSR, 6 UD+ (io), 7 UD- (io), 8 V3 (power), 9 RESET# (in), 10 VDD5 (power), 11 RXS/RI, 12 TNOW/DCD, 13 GND (power), 14 SUSPEND/DTR (out), 15 TXD (out), 16 RTS (out)

## CH9102F
designator U?
USB to high speed TTL Serial / UART; USB协议版本: USB 2.0 全速; 制造商: WCH(南京沁恒); 子类别: USB转串口; 封装: QFN24; 工作电压: 5V/3.3V/2.5V/1.8V; 最高速率: 4Mbps; 类别: USB转换芯片; 通道数: 1
footprint QFN24_4X4
pins: 0 GND (power), 1 RI (in), 2 GND (power), 3 UD+ (io), 4 UD- (io), 5 VIO (power), 6 V3 (power), 7 VDD5 (power), 8 VBUS (in), 9 RST# (in), 10 ACT# (out), 11 WAKEUP/GPIO3 (io), 12 TNOW/GPIO2 (io), 13 RXS/GPIO1 (io), 14 TXS/GPIO0 (io), 15 SUSPEND# (out), 16 GPIO4 (io), 17 SUSPEND (out), 18 CTS (in), 19 RTS (out), 20 RXD (in), 21 TXD (out), 22 DSR (in), 23 DTR (out), 24 DCD (in)

## CH9102X
designator U?
USB to high speed TTL Serial / UART; USB协议版本: USB 2.0 全速; 制造商: WCH(南京沁恒); 子类别: USB转串口; 封装: QFN28X5; 工作电压: 3.3V; 最高速率: 4Mbps; 类别: USB转换芯片; 通道数: 1
footprint QFN28_5X5
pins: 0 GND (power), 1 DCD (in), 2 RI (in), 3 GND (power), 4 UD+ (io), 5 UD- (io), 6 V3 (power), 7 VDD5 (power), 8 VBUS (in), 9 RST# (in), 10 ACT# (out), 11 SUSPEND# (out), 12 SUSPEND (out), 13 NC, 14 NC, 15 NC, 16 WAKEUP/GPIO3 (io), 17 TNOW/GPIO2 (io), 18 RXS/GPIO1 (io), 19 TXS/GPIO0 (io), 20 GPIO6 (io), 21 GPIO5 (io), 22 V3 (power), 23 CTS (in), 24 RTS (out), 25 RXD (in), 26 TXD (out), 27 DSR (in), 28 DTR (out)

## CH9103M
designator U?
USB to dual enhanced TTL Serial / 2*UART; USB协议版本: USB 2.0 全速; 制造商: WCH(南京沁恒); 子类别: USB转串口; 封装: QFN40X6; 工作电压: 5V/3.3V/2.5V/1.8V; 最高速率: 3Mbps; 类别: USB转换芯片; 通道数: 2
footprint QFN40_6X6
pins: 0 GND (power), 1 DSR0/GPIO0 (io), 2 DCD0/GPIO1 (io), 3 NC, 4 NC, 5 GND (power), 6 UD+ (io), 7 UD- (io), 8 VIO (power), 9 V3 (power), 10 VDD5 (power), 11 VBUS (in), 12 RST (in), 13 NC, 14 SUSPEND# (out), 15 ACT# (out), 16 DCD1/GPIO3 (io), 17 DSR1/GPIO2 (io), 18 TNOW1/GPIO11 (io), 19 NC, 20 NC, 21 TXD1 (out), 22 RXD1 (in), 23 RTS1/GPIO7 (io), 24 VIO (power), 25 GND (power), 26 CTS1/GPIO6 (io), 27 DTR1/GPIO9 (io), 28 NC, 29 NC, 30 NC, 31 NC, 32 NC, 33 NC, 34 DTR0/GPIO8 (io), 35 CTS0/GPIO4 (io), 36 RTS0/GPIO5 (io), 37 RXD0 (in), 38 TXD0 (out), 39 NC, 40 TNOW0/GPIO10 (io)

## CH9104L
designator U?
USB to quad serial ports / 4*UART; USB协议版本: USB 2.0 全速; 制造商: WCH(南京沁恒); 子类别: USB转串口; 封装: LQFP48; 工作电压: 3.3V; 最高速率: 6Mbps; 类别: USB转换芯片; 通道数: 4
footprint TQFP48_7X7
pins: 1 GND (power), 2 LOWPWR (out), 3 DSR3/GPIO32 (io), 4 GND (power), 5 VCC (power), 6 RTS0/TNOW0/GPIO05 (io), 7 CTS0/GPIO04 (io), 8 TXD1 (out), 9 RXD1 (in), 10 RTS1/TNOW1/GPIO15 (io), 11 CTS1/GPIO14 (io), 12 DTR1/GPIO13 (io), 13 DSR1/GPIO12 (io), 14 DCD1/GPIO11 (io), 15 RI1/RWK1/GPIO10 (io), 16 DTR0/GPIO03 (io), 17 DSR0/GPIO02 (io), 18 VCC (power), 19 GND (power), 20 DCD0/GPIO01 (io), 21 RI0/RWK0/GPIO00 (io), 22 TXD2 (out), 23 RXD2 (in), 24 RTS2/TNOW2/GPIO25 (io), 25 CTS2/GPIO24 (io), 26 DTR2/GPIO23 (io), 27 DSR2/GPIO22 (io), 28 DCD2/GPIO21 (io), 29 RI2/RWK2/GPIO20 (io), 30 TXD0 (out), 31 RXD0 (in), 32 GND (power), 33 VCC (power), 34 DCD3/GPIO31 (io), 35 SDA (in), 36 SCL (in), 37 RI3/RWK3/GPIO30 (io), 38 TXD3 (out), 39 RXD3 (in), 40 GND (power), 41 GND (power), 42 UD- (io), 43 UD+ (io), 44 NC, 45 VCC (power), 46 RTS3/TNOW3/GPIO35 (io), 47 CTS3/GPIO34 (io), 48 DTR3/GPIO33 (io)

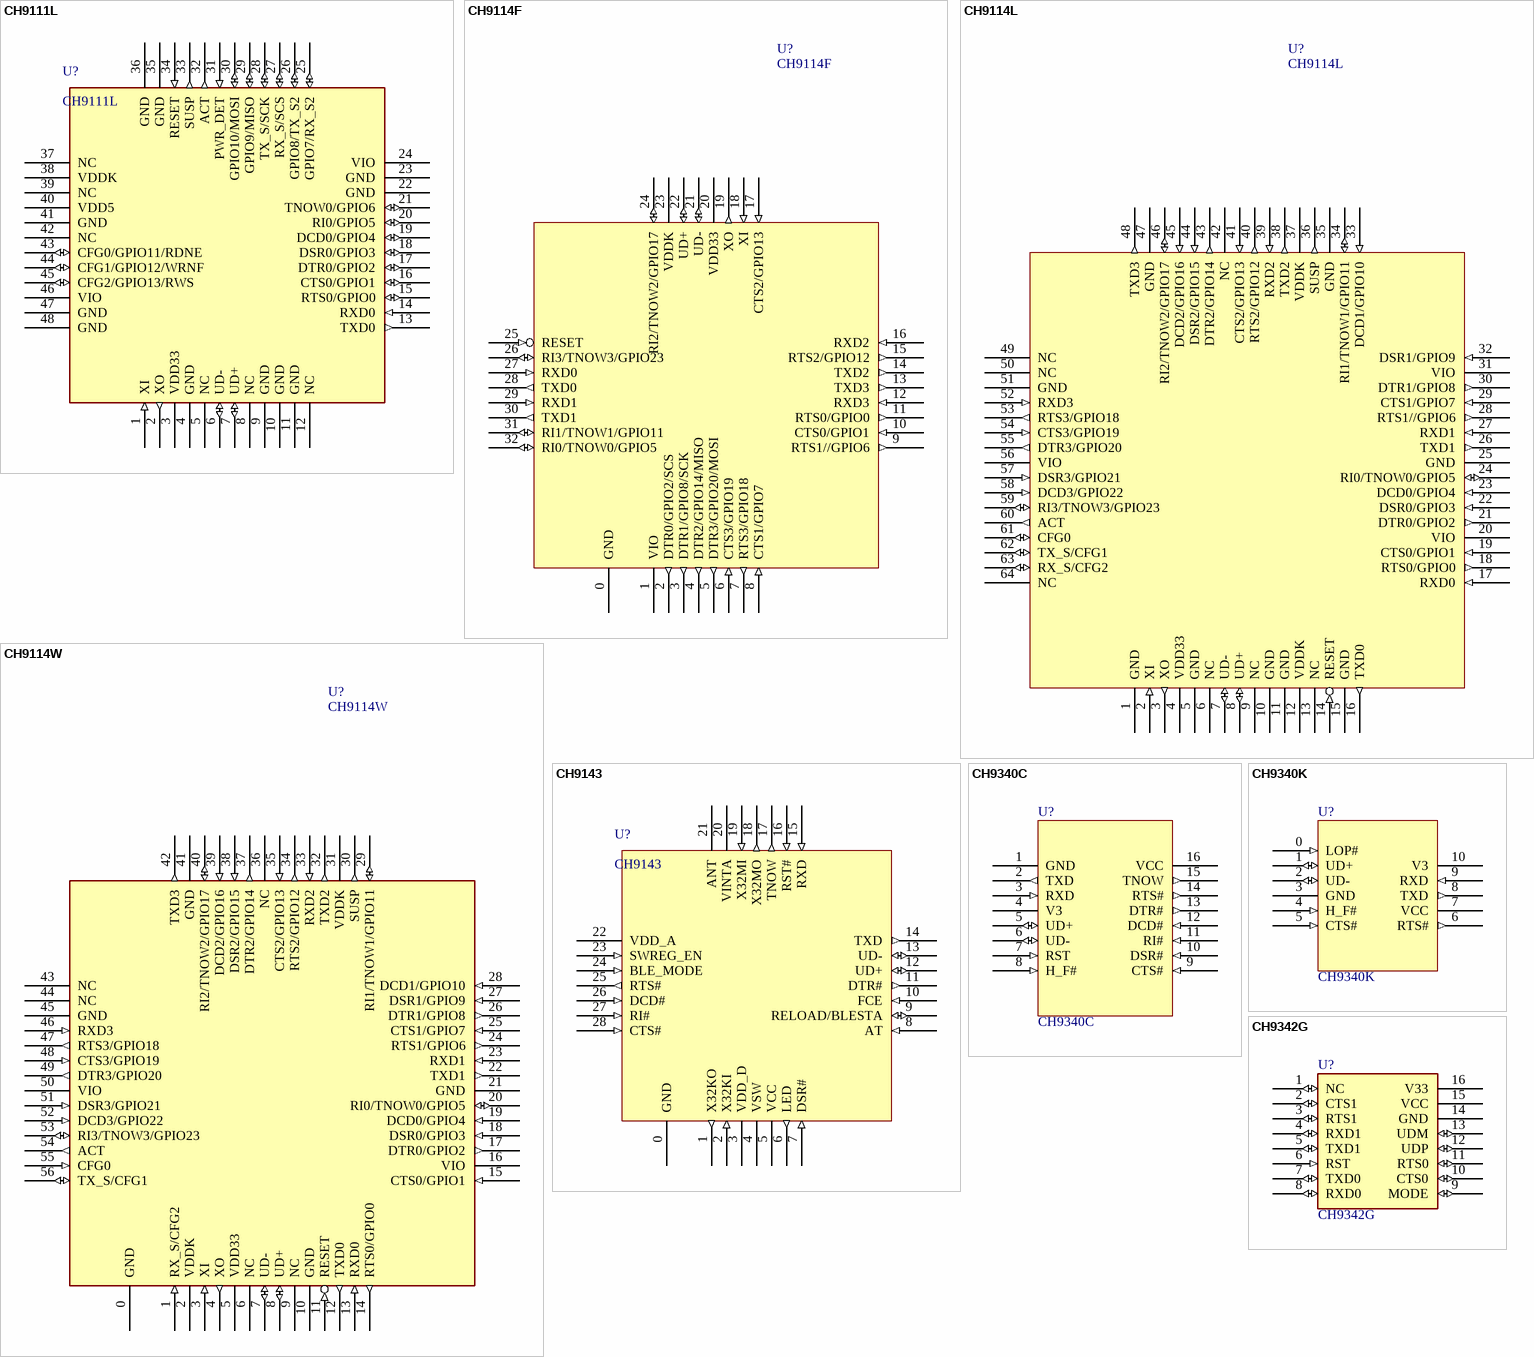
[diagram p4: symbols CH9111L to CH9342G]

## CH9111L
designator U?
High Speed USB to UART; USB协议版本: USB 2.0 高速; 制造商: WCH(南京沁恒); 子类别: USB转串口; 封装: LQFP48; 工作电压: 3.3V/2.5V/1.8V/1.2V; 最高速率: 15Mbps; 类别: USB转换芯片; 通道数: 1
footprint QFN48_7X7
pins: 1 XI (in), 2 XO (out), 3 VDD33 (power), 4 GND (power), 5 NC, 6 UD- (io), 7 UD+ (io), 8 NC, 9 GND (power), 10 GND (power), 11 GND (power), 12 NC, 13 TXD0 (out), 14 RXD0 (in), 15 RTS0/GPIO0 (io), 16 CTS0/GPIO1 (io), 17 DTR0/GPIO2 (io), 18 DSR0/GPIO3 (io), 19 DCD0/GPIO4 (io), 20 RI0/GPIO5 (io), 21 TNOW0/GPIO6 (io), 22 GND (power), 23 GND (power), 24 VIO (power), 25 GPIO7/RX_S2 (io), 26 GPIO8/TX_S2 (io), 27 RX_S/SCS (io), 28 TX_S/SCK (io), 29 GPIO9/MISO (io), 30 GPIO10/MOSI (io), 31 PWR_DET (in), 32 ACT (out), 33 SUSP (out), 34 RESET (in), 35 GND (power), 36 GND (power), 37 NC, 38 VDDK (power), 39 NC, 40 VDD5 (power), 41 GND (power), 42 NC, 43 CFG0/GPIO11/RDNE (io), 44 CFG1/GPIO12/WRNF (io), 45 CFG2/GPIO13/RWS (io), 46 VIO (power), 47 GND (power), 48 GND (power)

## CH9114F
designator U?
high-speed USB to quad UART & SPI; USB协议版本: USB 2.0 高速; 制造商: WCH(南京沁恒); 子类别: USB转串口; 封装: QFN32; 工作电压: 3.3V/2.5V/1.8V/1.2V; 最高速率: 15Mbps; 类别: USB转换芯片; 通道数: 4
footprint QFN32_4X4
pins: 0 GND (power), 1 VIO (power), 2 DTR0/GPIO2/SCS (out), 3 DTR1/GPIO8/SCK (out), 4 DTR2/GPIO14/MISO (out), 5 DTR3/GPIO20/MOSI (out), 6 CTS3/GPIO19 (in), 7 RTS3/GPIO18 (out), 8 CTS1/GPIO7 (in), 9 RTS1//GPIO6 (out), 10 CTS0/GPIO1 (in), 11 RTS0/GPIO0 (out), 12 RXD3 (in), 13 TXD3 (out), 14 TXD2 (out), 15 RTS2/GPIO12 (out), 16 RXD2 (in), 17 CTS2/GPIO13 (in), 18 XI (in), 19 XO (out), 20 VDD33 (power), 21 UD- (io), 22 UD+ (io), 23 VDDK (power), 24 RI2/TNOW2/GPIO17 (io), 25 RESET (in), 26 RI3/TNOW3/GPIO23 (io), 27 RXD0 (in), 28 TXD0 (out), 29 RXD1 (in), 30 TXD1 (out), 31 RI1/TNOW1/GPIO11 (io), 32 RI0/TNOW0/GPIO5 (io)

## CH9114L
designator U?
high-speed USB to quad UART & dual SPI; USB协议版本: USB 2.0 高速; 制造商: WCH(南京沁恒); 子类别: USB转串口; 封装: LQFP64M; 工作电压: 3.3V/2.5V/1.8V/1.2V; 最高速率: 15Mbps; 类别: USB转换芯片; 通道数: 4
footprint LQFP64M_10X10
pins: 1 GND (power), 2 XI (in), 3 XO (out), 4 VDD33 (power), 5 GND (power), 6 NC, 7 UD- (io), 8 UD+ (io), 9 NC, 10 GND (power), 11 GND (power), 12 VDDK (power), 13 NC, 14 RESET (in), 15 GND (power), 16 TXD0 (out), 17 RXD0 (in), 18 RTS0/GPIO0 (out), 19 CTS0/GPIO1 (in), 20 VIO (power), 21 DTR0/GPIO2 (out), 22 DSR0/GPIO3 (in), 23 DCD0/GPIO4 (in), 24 RI0/TNOW0/GPIO5 (io), 25 GND (power), 26 TXD1 (out), 27 RXD1 (in), 28 RTS1//GPIO6 (out), 29 CTS1/GPIO7 (in), 30 DTR1/GPIO8 (out), 31 VIO (power), 32 DSR1/GPIO9 (in), 33 DCD1/GPIO10 (in), 34 RI1/TNOW1/GPIO11 (io), 35 GND (power), 36 SUSP (out), 37 VDDK (power), 38 TXD2 (out), 39 RXD2 (in), 40 RTS2/GPIO12 (out), 41 CTS2/GPIO13 (in), 42 NC, 43 DTR2/GPIO14 (out), 44 DSR2/GPIO15 (in), 45 DCD2/GPIO16 (in), 46 RI2/TNOW2/GPIO17 (io), 47 GND (power), 48 TXD3 (out), 49 NC, 50 NC, 51 GND (power), 52 RXD3 (in), 53 RTS3/GPIO18 (out), 54 CTS3/GPIO19 (in), 55 DTR3/GPIO20 (out), 56 VIO (power), 57 DSR3/GPIO21 (in), 58 DCD3/GPIO22 (in), 59 RI3/TNOW3/GPIO23 (io), 60 ACT (out), 61 CFG0 (io), 62 TX_S/CFG1 (io), 63 RX_S/CFG2 (io), 64 NC

## CH9114W
designator U?
high-speed USB to quad UART & dual SPI; USB协议版本: USB 2.0 高速; 制造商: WCH(南京沁恒); 子类别: USB转串口; 封装: QFN56X8; 工作电压: 3.3V/2.5V/1.8V/1.2V; 最高速率: 15Mbps; 类别: USB转换芯片; 通道数: 4
footprint QFN56_8X8
pins: 0 GND (power), 1 RX_S/CFG2 (in), 2 VDDK (power), 3 XI (in), 4 XO (out), 5 VDD33 (power), 6 NC, 7 UD- (io), 8 UD+ (io), 9 NC, 10 GND (power), 11 RESET (in), 12 TXD0 (out), 13 RXD0 (in), 14 RTS0/GPIO0 (out), 15 CTS0/GPIO1 (in), 16 VIO (power), 17 DTR0/GPIO2 (out), 18 DSR0/GPIO3 (in), 19 DCD0/GPIO4 (in), 20 RI0/TNOW0/GPIO5 (io), 21 GND (power), 22 TXD1 (out), 23 RXD1 (in), 24 RTS1/GPIO6 (out), 25 CTS1/GPIO7 (in), 26 DTR1/GPIO8 (out), 27 DSR1/GPIO9 (in), 28 DCD1/GPIO10 (in), 29 RI1/TNOW1/GPIO11 (io), 30 SUSP (out), 31 VDDK (power), 32 TXD2 (out), 33 RXD2 (in), 34 RTS2/GPIO12 (out), 35 CTS2/GPIO13 (in), 36 NC, 37 DTR2/GPIO14 (out), 38 DSR2/GPIO15 (in), 39 DCD2/GPIO16 (in), 40 RI2/TNOW2/GPIO17 (io), 41 GND (power), 42 TXD3 (out), 43 NC, 44 NC, 45 GND (power), 46 RXD3 (in), 47 RTS3/GPIO18 (out), 48 CTS3/GPIO19 (in), 49 DTR3/GPIO20 (out), 50 VIO (power), 51 DSR3/GPIO21 (in), 52 DCD3/GPIO22 (in), 53 RI3/TNOW3/GPIO23 (io), 54 ACT (out), 55 CFG0 (in), 56 TX_S/CFG1 (io)

## CH9143
designator U?
Bluetooth-LowEnergy & UART & USB Mutual Transport; USB协议版本: USB 2.0 全速; 制造商: WCH(南京沁恒); 子类别: USB转串口; 封装: QFN28; 工作电压: 3.3V/2.5V; 最高速率: 1Mbps; 类别: USB转换芯片; 通道数: 1
footprint QFN28_4X4
pins: 0 GND (power), 1 X32KO (out), 2 X32KI (in), 3 VDD_D (power), 4 VSW (power), 5 VCC (power), 6 LED (out), 7 DSR# (in), 8 AT (in), 9 RELOAD/BLESTA (io), 10 FCE (in), 11 DTR# (out), 12 UD+ (io), 13 UD- (io), 14 TXD (out), 15 RXD (in), 16 RST# (in), 17 TNOW (out), 18 X32MO (out), 19 X32MI (in), 20 VINTA (power), 21 ANT, 22 VDD_A (power), 23 SWREG_EN (in), 24 BLE_MODE (in), 25 RTS# (out), 26 DCD# (in), 27 RI# (in), 28 CTS# (in)

## CH9340C
designator U?
USB CDC to TTL Serial / UART; USB协议版本: USB 2.0 全速; 制造商: WCH(南京沁恒); 子类别: USB转串口; 封装: SOP16; 工作电压: 5V/3.3V; 最高速率: 1Mbps; 类别: USB转换芯片; 通道数: 1
footprint SOP16
pins: 1 GND (power), 2 TXD (out), 3 RXD (in), 4 V3 (power), 5 UD+ (io), 6 UD- (io), 7 RST (in), 8 H_F# (in), 9 CTS# (in), 10 DSR# (in), 11 RI# (in), 12 DCD# (in), 13 DTR# (out), 14 RTS# (out), 15 TNOW (out), 16 VCC (power)

## CH9340K
designator U?
USB CDC to TTL Serial / UART; USB协议版本: USB 2.0 全速; 制造商: WCH(南京沁恒); 子类别: USB转串口; 封装: ESSOP10; 工作电压: 5V/3.3V; 最高速率: 1Mbps; 类别: USB转换芯片; 通道数: 1
footprint ESSOP10
pins: 0 LOP# (in), 1 UD+ (io), 2 UD- (io), 3 GND (power), 4 H_F# (in), 5 CTS# (in), 6 RTS# (out), 7 VCC (power), 8 TXD (out), 9 RXD (in), 10 V3 (power)

## CH9342G
designator U?
USB to dual TTL Serial / 2*UART; USB协议版本: USB 2.0 全速; 制造商: WCH(南京沁恒); 子类别: USB转串口; 封装: SOP16; 工作电压: 5V; 最高速率: 115200bps; 类别: USB转换芯片; 通道数: 2
footprint SOP16
pins: 1 NC (io), 2 CTS1 (io), 3 RTS1 (io), 4 RXD1 (io), 5 TXD1 (io), 6 RST (in), 7 TXD0 (io), 8 RXD0 (io), 9 MODE (io), 10 CTS0 (io), 11 RTS0 (io), 12 UDP (io), 13 UDM (io), 14 GND (power), 15 VCC (power), 16 V33 (power)

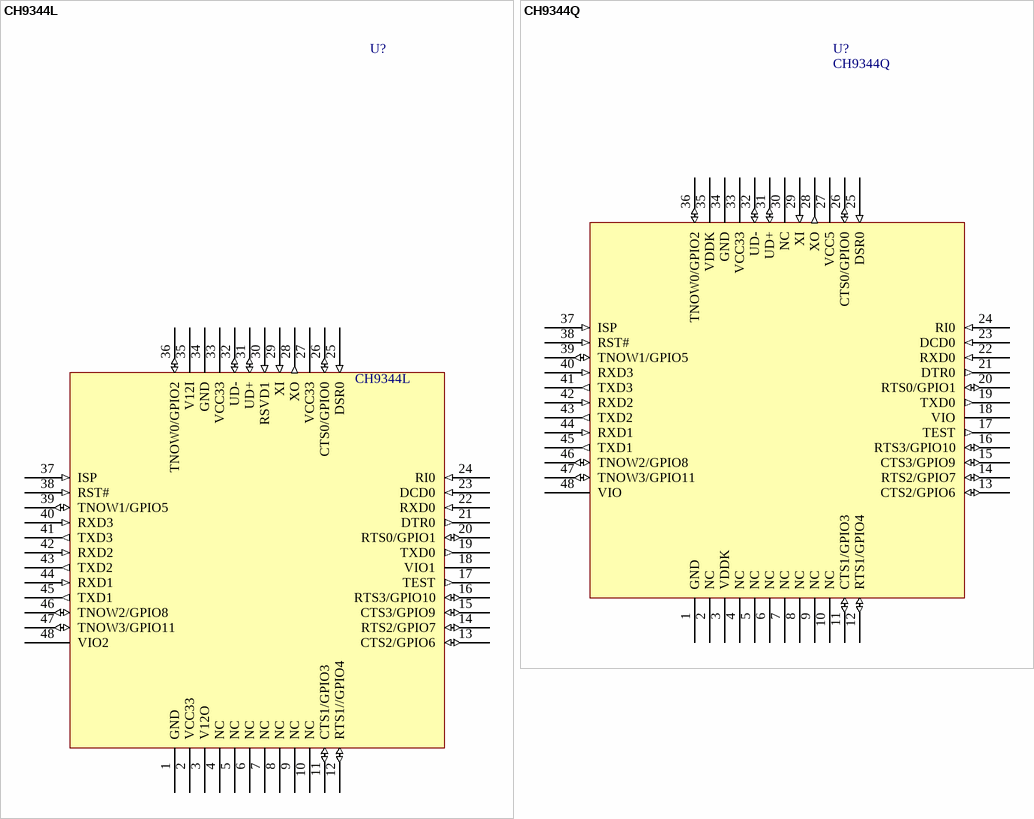
[diagram p5: symbols CH9344L to CH9344Q]

## CH9344L
designator U?
USB high-speed to quad TTL Serial / UART; USB协议版本: USB 2.0 高速; 制造商: WCH(南京沁恒); 子类别: USB转串口; 封装: LQFP48; 工作电压: 3.3V/2.5V/1.8V; 最高速率: 12Mbps; 类别: USB转换芯片; 通道数: 4
footprint LQFP48
pins: 1 GND (power), 2 VCC33 (power), 3 V12O (power), 4 NC, 5 NC, 6 NC, 7 NC, 8 NC, 9 NC, 10 NC, 11 CTS1/GPIO3 (io), 12 RTS1//GPIO4 (io), 13 CTS2/GPIO6 (io), 14 RTS2/GPIO7 (io), 15 CTS3/GPIO9 (io), 16 RTS3/GPIO10 (io), 17 TEST (out), 18 VIO1 (power), 19 TXD0 (out), 20 RTS0/GPIO1 (io), 21 DTR0 (out), 22 RXD0 (in), 23 DCD0 (in), 24 RI0 (in), 25 DSR0 (in), 26 CTS0/GPIO0 (io), 27 VCC33 (power), 28 XO (out), 29 XI (in), 30 RSVD1 (in), 31 UD+ (io), 32 UD- (io), 33 VCC33 (power), 34 GND (power), 35 V12I (power), 36 TNOW0/GPIO2 (io), 37 ISP (in), 38 RST# (in), 39 TNOW1/GPIO5 (io), 40 RXD3 (in), 41 TXD3 (out), 42 RXD2 (in), 43 TXD2 (out), 44 RXD1 (in), 45 TXD1 (out), 46 TNOW2/GPIO8 (io), 47 TNOW3/GPIO11 (io), 48 VIO2 (power)

## CH9344Q
designator U?
USB high-speed to quad TTL Serial / UART; USB协议版本: USB 2.0 高速; 制造商: WCH(南京沁恒); 子类别: USB转串口; 封装: LQFP48; 工作电压: 3.3V/2.5V/1.8V/1.2V; 最高速率: 12Mbps; 类别: USB转换芯片; 通道数: 4
footprint LQFP48
pins: 1 GND (power), 2 NC, 3 VDDK (power), 4 NC, 5 NC, 6 NC, 7 NC, 8 NC, 9 NC, 10 NC, 11 CTS1/GPIO3 (io), 12 RTS1/GPIO4 (io), 13 CTS2/GPIO6 (io), 14 RTS2/GPIO7 (io), 15 CTS3/GPIO9 (io), 16 RTS3/GPIO10 (io), 17 TEST (out), 18 VIO (power), 19 TXD0 (out), 20 RTS0/GPIO1 (io), 21 DTR0 (out), 22 RXD0 (in), 23 DCD0 (in), 24 RI0 (in), 25 DSR0 (in), 26 CTS0/GPIO0 (io), 27 VCC5 (power), 28 XO (out), 29 XI (in), 30 NC, 31 UD+ (io), 32 UD- (io), 33 VCC33 (power), 34 GND (power), 35 VDDK (power), 36 TNOW0/GPIO2 (io), 37 ISP (in), 38 RST# (in), 39 TNOW1/GPIO5 (io), 40 RXD3 (in), 41 TXD3 (out), 42 RXD2 (in), 43 TXD2 (out), 44 RXD1 (in), 45 TXD1 (out), 46 TNOW2/GPIO8 (io), 47 TNOW3/GPIO11 (io), 48 VIO (power)